# EAGLE library part 794065 (library con-tyco)
MALE CONNECTOR Mini-Universal MATE-N-LOK
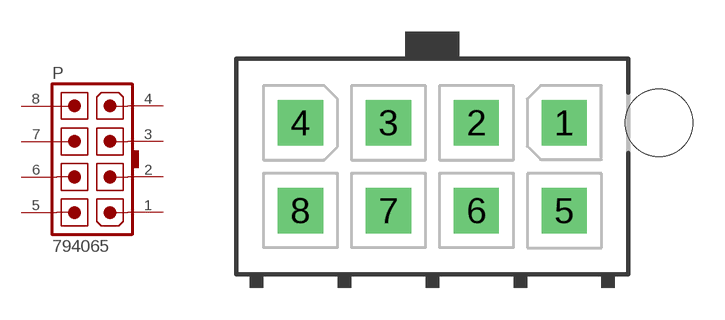
[diagram p14: symbol with the pads of 794065; footprint 794065]

Designator prefix P

## 794065  [794065]
1  1  pas
2  2  pas
3  3  pas
4  4  pas
5  5  pas
6  6  pas
7  7  pas
8  8  pas

## Footprint 794065 (pad centres in mm)
MALE CONNECTOR Mini-Universal MATE-N-LOK
drill 1.422 square: 1 6.21,2.07; 2 2.07,2.07; 3 -2.07,2.07; 4 -6.21,2.07; 5 6.21,-2.07; 6 2.07,-2.07; 7 -2.07,-2.07; 8 -6.21,-2.07
hole 3.175 at 10.66,2.07